# EAGLE library part 253-106/000-004 (library con-wago_253)
Serie 253, Stand: 01.01.2012. Die jeweils aktuellen Daten zu diesem Artikel finden Sie in unserem Produktkatalog, den Sie unter www.wago.com einsehen können. As of: 01/01/2012. Please find the newest data for this article in our product catalogue, which can be viewed under www.wago.com.
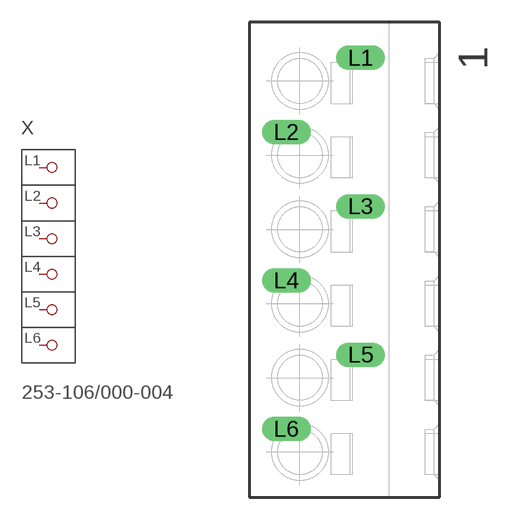
[diagram p22: symbol with the pads of P-253-106; footprint P-253-106]

Designator prefix X

## 253-106/000-004  [P-253-106]
L1  P1
L2  P2
L3  P3
L4  P4
L5  P5
L6  P6

## Footprint P-253-106 (pad centres in mm)
drill 1.1 long: L1 1.1,13.6; L2 -3.9,8.6; L3 1.1,3.6; L4 -3.9,-1.4; L5 1.1,-6.4; L6 -3.9,-11.4